# Altium schematic symbol library 晶振.SchLib: 3 symbols
Pins are listed as number, name and electrical type; pins without a type are passive.

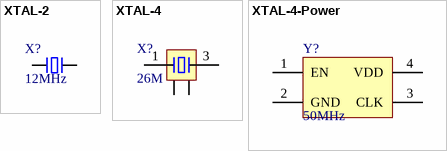
[diagram p0: symbols XTAL-2 to XTAL-4-Power]

## XTAL-2
designator X?, comment 12MHz
2脚晶振; 版权归属: 源创客; BOM名称: 2脚晶振; 学习资源: www.ooocke.com
footprint XTAL-3X10
footprint XTAL-3X8
footprint XTAL-2X6H
footprint XTAL-2X6
footprint XTAL-49S DIP
footprint XTAL-3215
footprint XTAL-3X8H
footprint XTAL-49S SMD
pins: 1, 2

## XTAL-4
designator X?, comment 26M
4脚晶振; 版权归属: 源创客; BOM名称: 4脚晶振; 学习资源: www.ooocke.com
footprint XTAL-5032
footprint XTAL-3225
pins: 1, 2, 3, 4

## XTAL-4-Power
designator Y?, comment 50MHz
4脚有源晶振
footprint XTAL-3225
pins: 1 EN, 2 GND, 3 CLK, 4 VDD